# Altium integrated library 3_PositionHeaderMale.IntLib: 1 symbol
Pins are listed as number, name and electrical type; pins without a type are passive.

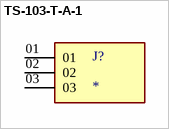
[diagram p0: symbol TS-103-T-A-1]

## TS-103-T-A-1
designator J?
Connector Header position; MP: TS-103-T-A-1; MF: Samtec; Check_prices: https://www.snapeda.com/parts/TS-103-T-A-1/Samtec/view-part/?ref=eda; Value: *; Availability: In Stock; Price: None; Package: None; SnapEDA_Link: https://www.snapeda.com/parts/TS-103-T-A-1/Samtec/view-part/?ref=snap; Purchase-URL: https://pricing.snapeda.com/search/part/TS-103-T-A-1/?ref=eda
footprint SAMTEC_TS-103-T-A-1
pins: 01, 02, 03